# EAGLE library part LOPY4 (library Eagle_UOF_Lib)
Pycom Pycom LoPy4 Bluetooth Smart (BLE), LoRa, SigFox, WiFi Development Board Source: Datasheet <https://pycom.io/wp-content/uploads/2018/03/Pycom_Specsheet_LoPy4.pdf>
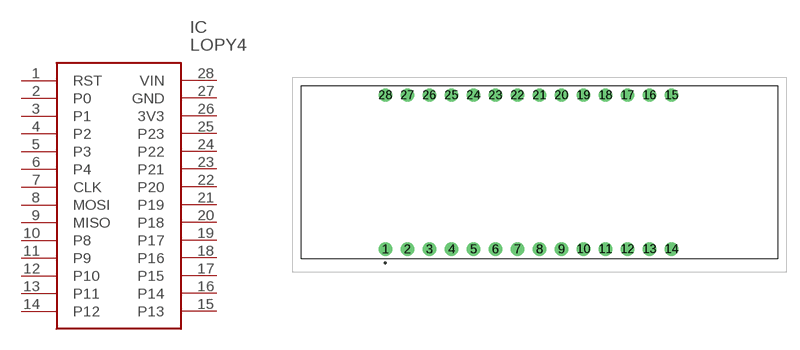
[diagram p5: symbol with the pads of LOPY4; footprint LOPY4]

Designator prefix IC

## LOPY4 (ARROW_PART_NUMBER: LOPY4; ARROW_PRICE-STOCK: https://www.arrow.com/en/products/lopy4/pycom-ltd; DESCRIPTION: Pycom Pycom LoPy4 Bluetooth Smart (BLE), LoRa, SigFox, WiFi Development Board; HEIGHT: 5mm; MANUFACTURER_NAME: Pycom; MANUFACTURER_PART_NUMBER: LOPY4; MOUSER_PART_NUMBER: 365-LOPY4; MOUSER_PRICE-STOCK: https://www.mouser.com/Search/Refine.aspx?Keyword=365-LOPY4)  [LOPY4]
1  RST
2  P0
3  P1
4  P2
5  P3
6  P4
7  CLK
8  MOSI
9  MISO
10  P8
11  P9
12  P10
13  P11
14  P12
15  P13
16  P14
17  P15
18  P16
19  P17
20  P18
21  P19
22  P20
23  P21
24  P22
25  P23
26  3V3
27  GND
28  VIN

## Footprint LOPY4 (pad centres in mm)
LOPY4
drill 1.02 pad 1.53: 1 -17.78,-8.59; 2 -15.24,-8.59; 3 -12.7,-8.59; 4 -10.16,-8.59; 5 -7.62,-8.59; 6 -5.08,-8.59; 7 -2.54,-8.59; 8 0,-8.59; 9 2.54,-8.59; 10 5.08,-8.59; 11 7.62,-8.59; 12 10.16,-8.59; 13 12.7,-8.59; 14 15.24,-8.59; 15 15.24,9.19; 16 12.7,9.19; 17 10.16,9.19; 18 7.62,9.19; 19 5.08,9.19; 20 2.54,9.19; 21 0,9.19; 22 -2.54,9.19; 23 -5.08,9.19; 24 -7.62,9.19; 25 -10.16,9.19; 26 -12.7,9.19; 27 -15.24,9.19; 28 -17.78,9.19